# Altium schematic symbol library IC_BatChargers.SchLib: 8 symbols
Pins are listed as number, name and electrical type; pins without a type are passive.

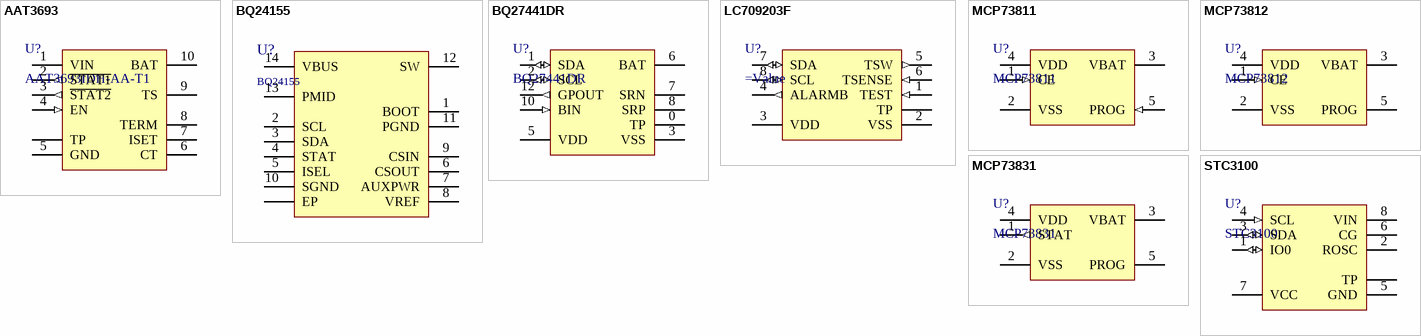
[diagram p0: symbols AAT3693 to STC3100]

## AAT3693
designator U?, comment AAT3693IDH-AA-T1
Li-Ion/Polymer Battery Charger; VoltageSupplyMax[V]: 7.5; VoltageSupplyMin[V]: 4; Current[A]: 1.6; Datasheet: http://www.skyworksinc.com/uploads/documents/AAT3693_201896E.pdf; Supplier: https://www.digikey.com/product-detail/en/skyworks-solutions-inc/AAT3693IDH-AA-T1/863-1512-1-ND/4246137; Price(1): 0.94; Price(100): 0.6549; Value: AAT3693IDH-AA-T1; BOMString: AAT3693IDH-AA-T1; Name: AAT3693IDH-AA-T1
footprint DFN-10-0.4-2.2X2.2_TP (QFN, 10-Leads, Body 2,20x2,20mm, Pitch 0,40mm, Thermal Pad 0,90x1,70mm, IPC Medium Density)
pins: 0 TP (power), 1 VIN (power), 2 ~{STAT1} (out), 3 ~{STAT2} (out), 4 EN (in), 5 GND (power), 6 CT, 7 ISET, 8 TERM, 9 TS, 10 BAT (power)

## BQ24155
designator U?
Fully Integrated Switch-Mode One-Cell Li-Ion Charger with Full USB Compliance; Current[A]: 1.25; VoltageSupplyMax[V]: 6; VoltageSupplyMin[V]: 3.8; Name: BQ24155; BOMString: =Name+' '+Footrpint; Supplier: https://www.digikey.com/product-detail/en/texas-instruments/BQ24155RGYR/296-27187-1-ND/2256847; Datasheet: http://www.ti.com/lit/ds/symlink/bq24155.pdf
footprint QFN-14-0.5-3.5x3.5_TP (QFN, 14-Leads, Body 3,50x3,50mm, Pitch 1,50mm/0,50mm, Thermal Pad 2,05x2,05mm, IPC Medium Density)
pins: 0 EP, 1 BOOT, 2 SCL, 3 SDA, 4 STAT, 5 ISEL, 6 CSOUT, 7 AUXPWR, 8 VREF, 9 CSIN, 10 SGND, 11 PGND, 12 SW, 13 PMID, 14 VBUS

## BQ27441DR
designator U?
System-Side Impedance Track™ Fuel Gauge; VoltageSupplyMax[V]: 4.5; VoltageSupplyMin[V]: 2.45; Datasheet: http://www.ti.com/lit/ds/symlink/bq27441-g1.pdf; Supplier: https://www.digikey.com/product-detail/en/texas-instruments/BQ27441DRZT-G1A/296-37271-1-ND/4733020; Price(1): 2.65; Price(100): 1.9153; Device: BQ27441DR
footprint DFN-12-0.4-2.5x4 (QFN, 12-Leads, Body 4,00x2,50mm, Pitch 0,40mm, Thermal Pad 2,45x1,95mm, IPC Medium Density)
pins: 0 TP, 1 SDA (io), 2 SCL (io), 3 VSS, 5 VDD, 6 BAT, 7 SRN, 8 SRP, 10 BIN (in), 12 GPOUT (out)

## LC709203F
designator U?
Smart LiB Battery Fuel Gauge LSI for 1-Cell Li-Ion (Li+); Current[A]: 3e-6; VoltageSupplyMax[V]: 4.5; VoltageSupplyMin[V]: 2.5; Value: LC709203FQH-01TWG; Datasheet: http://www.onsemi.com/pub/Collateral/LC709203F-D.PDF; Supplier: https://www.digikey.com/product-detail/en/on-semiconductor/LC709203FQH-01TWG/LC709203FQH-01TWGOSCT-ND/5801645; Price(1): 1.65; Price(100): 1.1946; BOMString: LC709203FQH-01TWG; Name: LC709203FQH-01TWG
footprint DFN-8-0.65-3x4_TP (QFN, 8-Leads, Body 4,00x3,00mm, Pitch 0,65mm, Thermal Pad 2,40x1,80mm, IPC Medium Density)
pins: 0 TP (power), 1 TEST (in), 2 VSS (power), 3 VDD (power), 4 ALARMB (out), 5 TSW (out), 6 TSENSE (in), 7 SDA (io), 8 SCL (io)

## MCP73811
designator U?
Miniature 1-Cell Li-Ion/Li-Pol Charge Management Controller; Current[A]: 0.5; VoltageSupplyMax[V]: 6; VoltageSupplyMin[V]: 3.75; Datasheet: http://ww1.microchip.com/downloads/en/DeviceDoc/22036b.pdf; Supplier: https://www.digikey.com/product-detail/en/microchip-technology/MCP73812T-420I-OT/MCP73812T-420I-OTCT-ND/1979800; Price(1): 0.56; Price(100): 0.4223; Device: MCP73811
footprint SOT-23-5
pins: 1 CE (in), 2 VSS, 3 VBAT, 4 VDD, 5 PROG (in)

## MCP73812
designator U?
Miniature 1-Cell Li-Ion/Li-Pol Charge Management Controller; Current[A]: 0.5; VoltageSupplyMax[V]: 6; VoltageSupplyMin[V]: 3.75; Datasheet: http://ww1.microchip.com/downloads/en/DeviceDoc/22036b.pdf; Supplier: https://www.digikey.com/product-detail/en/microchip-technology/MCP73812T-420I-OT/MCP73812T-420I-OTCT-ND/1979800; Price(1): 0.56; Price(100): 0.4223; Device: MCP73812
footprint SOT-23-5
pins: 1 CE (in), 2 VSS, 3 VBAT, 4 VDD, 5 PROG

## MCP73831
designator U?
Miniature 1-Cell Li-Ion/Li-Pol Charge Management Controller; Current[A]: 0.5; VoltageSupplyMax[V]: 6; VoltageSupplyMin[V]: 3.75; Datasheet: http://ww1.microchip.com/downloads/en/DeviceDoc/20001984g.pdf; Supplier: https://www.digikey.com/product-detail/en/microchip-technology/MCP73831T-2ACI-OT/MCP73831T-2ACI-OTCT-ND/1979802; Price(1): 0.58; Price(100): 0.484; Device: MCP73831
footprint SOT-23-5
pins: 1 STAT (out), 2 VSS, 3 VBAT, 4 VDD, 5 PROG

## STC3100
designator U?
Battery monitor IC with Coulomb counter/gas gauge; Current[A]: 1e-4; VoltageSupplyMax[V]: 5.5; VoltageSupplyMin[V]: 2.7; Datasheet: http://www.st.com/content/ccc/resource/technical/document/datasheet/cb/7e/b5/82/36/e5/4c/f1/CD00219947.pdf/files/CD00219947.pdf/jcr:content/translations/en.CD00219947.pdf; Supplier: https://www.digikey.com/product-detail/en/stmicroelectronics/STC3100IQT/497-8824-1-ND/2062333; Price(1): 2.29; Price(100): 1.6564; Device: STC3100
footprint DFN-8-0.5-3x3_TP (SON, 8-Leads, Body 3,00x3,00mm, Pitch 0,50mm, Thermal Pad 1,60x1,60mm, IPC Medium Density)
pins: 0 TP, 1 IO0 (io), 2 ROSC, 3 SDA (io), 4 SCL (in), 5 GND (power), 6 CG, 7 VCC (power), 8 VIN